# EAGLE library part DS1307Z (library lbm)
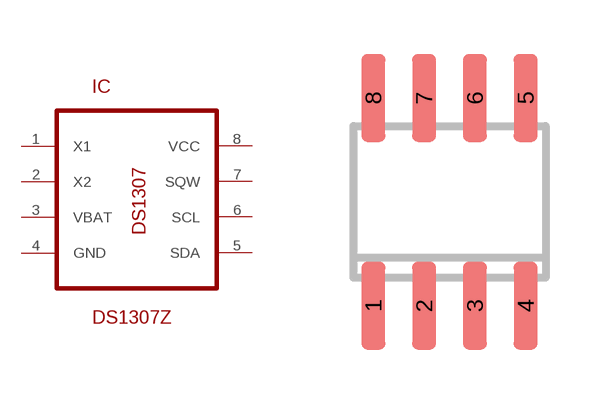
[diagram p40: symbol with the pads of SO8; footprint SO8]

Designator prefix IC

## DS1307Z  [SO8]
1  X1
2  X2
3  VBAT
4  GND
5  SDA
6  SCL
7  SQW
8  VCC

## Footprint SO8 (pad centres in mm)
smd 0.6 x 2.2: 1 -1.905,-2.6; 2 -0.635,-2.6; 3 0.635,-2.6; 4 1.905,-2.6; 5 1.905,2.6; 6 0.635,2.6; 7 -0.635,2.6; 8 -1.905,2.6